# Altium footprint library VAR-VARISTOR.PcbLib: 1 footprints
Each footprint in its own frame and in the unit in brackets; x right, y up, seen from the top. Pads: shape width x height; smd on the part's side, far side on the other; paste and mask are expansions set on the pad; w line width, h text height; cw(c..) or ccw(c..) is an arc to the next point about the centre after c.
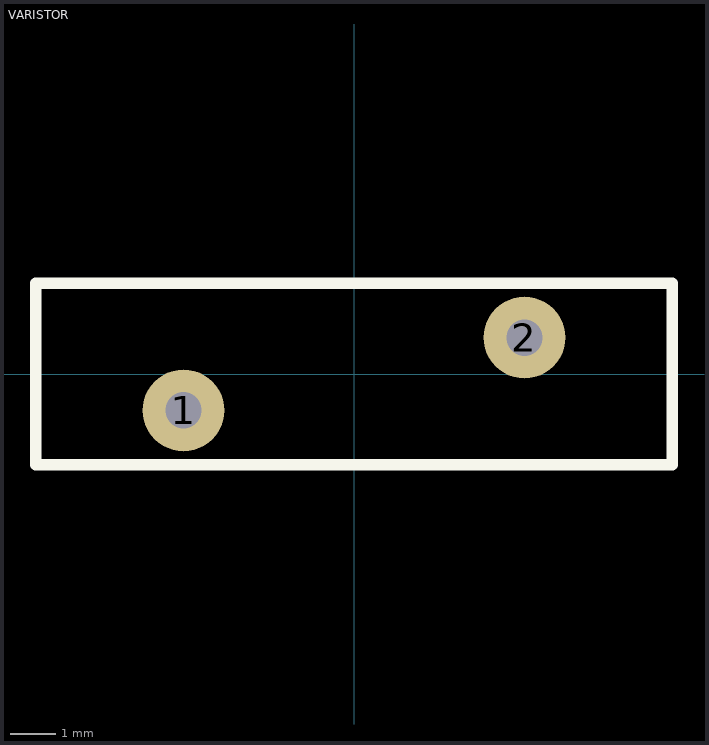
[diagram p0: the footprint, top view; thin cyan lines are the x and y axes]

## VARISTOR [mm] "TVR10 681 420V 10MM"
pads (2):
  round 1.8 hole 0.8: 1(-3.75,-0.8) 2(3.75,0.8)
Top Overlay:
  lines w0.254: -7,-2 7,-2 7,2 -7,2 -7,-2
3D body "VARISTOR.stp": height 12.5, standoff -3, extent -5.999,-1.3 6,1.297